# Altium schematic symbol library Xbee3_1W_Customer_Sch_Symbol.SchLib: 1 symbol
Pins are listed as number, name and electrical type; pins without a type are passive.

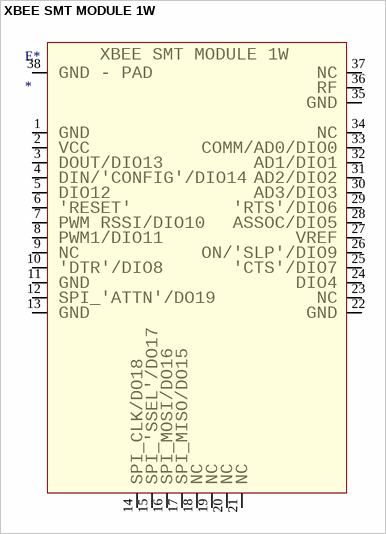
[diagram p0: symbol XBEE SMT MODULE 1W]

## XBEE SMT MODULE 1W
designator E*
XBEE SMT MODULE 1W
pins: 1, 2, 3, 4, 5, 6, 7, 8, 9, 10, 11, 12, 13, 14, 15, 16, 17, 18, 19, 20, 21, 22, 23, 24, 25, 26, 27, 28, 29, 30, 31, 32, 33, 34, 35, 36, 37, 38
text: GND - PAD; NC; RF; GND; VCC; COMM/AD0/DIO0; DOUT/DIO13; AD1/DIO1; DIN/'CONFIG'/DIO14; AD2/DIO2; DIO12; AD3/DIO3; 'RESET'; 'RTS'/DIO6; PWM RSSI/DIO10; ASSOC/DIO5; PWM1/DIO11; VREF; ON/'SLP'/DIO9; 'DTR'/DIO8; 'CTS'/DIO7; DIO4; SPI_'ATTN'/DO19; SPI_CLK/DO18; SPI_'SSEL'/DO17; SPI_MOSI/DO16; SPI_MISO/DO15